# Altium schematic symbol library TESTPOINT (1).schlib: 1 symbol
Pins are listed as number, name and electrical type; pins without a type are passive.

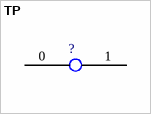
[diagram p0: symbol TP]

## TP
designator ?
footprint TESTPOINT
pins: 0, 1